# Altium schematic symbol library inductor-smd.SchLib: 3 symbols
Pins are listed as number, name and electrical type; pins without a type are passive.

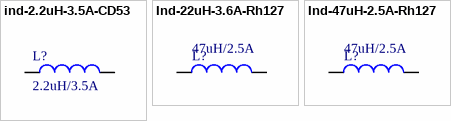
[diagram p0: symbols ind-2.2uH-3.5A-CD53 to Ind-47uH-2.5A-Rh127]

## ind-2.2uH-3.5A-CD53
designator L?, comment 2.2uH/3.5A
footprint CD53
pins: 1, 2

## Ind-22uH-3.6A-Rh127
designator L?  value 47uH/2.5A
FIXED IND 22UH 3.6A 43.2 MOHM; Manufacturer: Sumida America Components Inc.; Manufacturer Part Number: CDRH127NP-220MC; Local Supplier: thegioiic; Local Supplier link: https://thegioiic.com/products/cuon-cam-22uh-rh127-smd-12x12x7; Supplier: Digikey; Supplier 1 Link: https://www.digikey.com/product-detail/en/sumida-america-components-inc/CDRH127NP-220MC/308-1464-1-ND/956692; Supplier 1 Part Number: 308-1464-1-ND
footprint RH127
pins: 1, 2

## Ind-47uH-2.5A-Rh127
designator L?  value 47uH/2.5A
FIXED IND 47UH 2.5A 100 MOHM SMD; Manufacturer: Sumida America Components Inc.; Manufacturer Part Number: CDRH127NP-470MC; Local Supplier: thegioiic; Local Supplier Link: https://thegioiic.com/products/cuon-cam-47uh-rh127-smd-12x12x7; Supplier 1: Digikey; Supplier 1 Link: https://www.digikey.com/product-detail/en/sumida-america-components-inc/CDRH127NP-470MC/308-1471-1-ND/956699; Supplier 1 Part Number: 308-1471-1-ND
footprint RH127
pins: 1, 2